# EAGLE library part CDTV_DIAG (library Amiga)
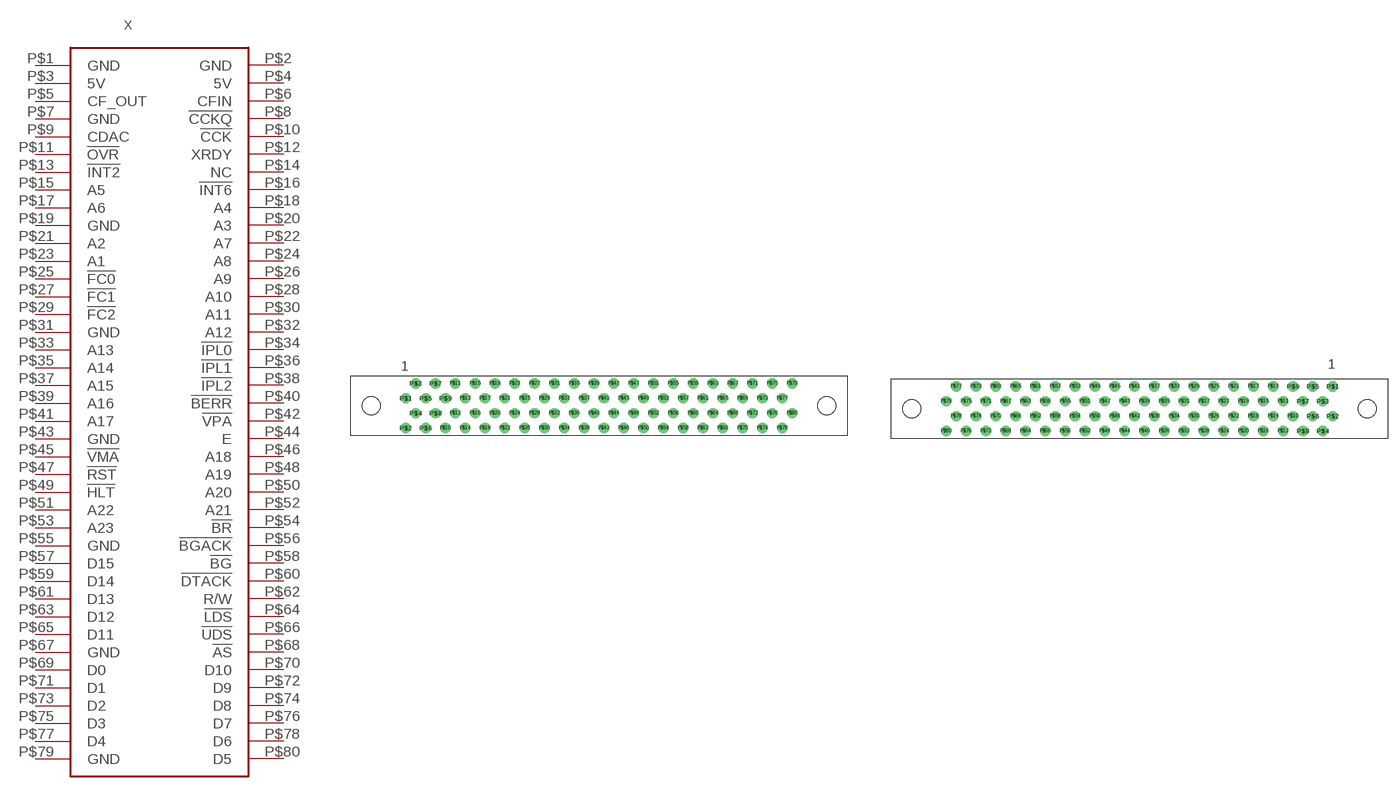
[diagram p46: symbol with the pads of KEL80-F; footprints KEL80-F, KEL80-M]

Designator prefix X

## CDTV_DIAGF  [KEL80-F]
P$1  GND  pwr
P$2  GND  pwr
P$3  5V  pwr
P$4  5V  pwr
P$5  CF_OUT  out
P$6  CFIN  in
P$7  GND  pwr
P$8  !CCKQ  in
P$9  CDAC  in
P$10  !CCK  in
P$11  !OVR  out
P$12  XRDY  out
P$13  !INT2  out
P$14  NC  nc
P$15  A5
P$16  !INT6  out
P$17  A6
P$18  A4
P$19  GND  pwr
P$20  A3
P$21  A2
P$22  A7
P$23  A1
P$24  A8
P$25  !FC0
P$26  A9
P$27  !FC1
P$28  A10
P$29  !FC2
P$30  A11
P$31  GND  pwr
P$32  A12
P$33  A13
P$34  !IPL0
P$35  A14
P$36  !IPL1
P$37  A15
P$38  !IPL2
P$39  A16
P$40  !BERR
P$41  A17
P$42  !VPA  in
P$43  GND  pwr
P$44  E  in
P$45  !VMA
P$46  A18
P$47  !RST
P$48  A19
P$49  !HLT
P$50  A20
P$51  A22
P$52  A21
P$53  A23
P$54  !BR  in
P$55  GND  pwr
P$56  !BGACK  in
P$57  D15
P$58  !BG  out
P$59  D14
P$60  !DTACK
P$61  D13
P$62  R/W
P$63  D12
P$64  !LDS
P$65  D11
P$66  !UDS
P$67  GND  pwr
P$68  !AS
P$69  D0
P$70  D10
P$71  D1
P$72  D9
P$73  D2
P$74  D8
P$75  D3
P$76  D7
P$77  D4
P$78  D6
P$79  GND  pwr
P$80  D5

## CDTV_DIAGM  [KEL80-M]
Pads as for KEL80-F

## Footprint KEL80-F (pad centres in mm)
drill 0.8 octagon: P$1 -24.765,0.953
drill 0.8: P$2 -24.765,-2.857; P$3 -23.495,2.857; P$4 -23.495,-0.953; P$5 -22.225,0.953; P$6 -22.225,-2.857; P$7 -20.955,2.857; P$8 -20.955,-0.953; P$9 -19.685,0.953; P$10 -19.685,-2.857; P$11 -18.415,2.857; P$12 -18.415,-0.953; P$13 -17.145,0.953; P$14 -17.145,-2.857; P$15 -15.875,2.857; P$16 -15.875,-0.953; P$17 -14.605,0.953; P$18 -14.605,-2.857; P$19 -13.335,2.857; P$20 -13.335,-0.953; P$21 -12.065,0.953; P$22 -12.065,-2.857; P$23 -10.795,2.857; P$24 -10.795,-0.953; P$25 -9.525,0.953; P$26 -9.525,-2.857; P$27 -8.255,2.857; P$28 -8.255,-0.953; P$29 -6.985,0.953; P$30 -6.985,-2.857; P$31 -5.715,2.857; P$32 -5.715,-0.953; P$33 -4.445,0.953; P$34 -4.445,-2.857; P$35 -3.175,2.857; P$36 -3.175,-0.953; P$37 -1.905,0.953; P$38 -1.905,-2.857; P$39 -0.635,2.857; P$40 -0.635,-0.953; P$41 0.635,0.953; P$42 0.635,-2.857; P$43 1.905,2.857; P$44 1.905,-0.953; P$45 3.175,0.953; P$46 3.175,-2.857; P$47 4.445,2.857; P$48 4.445,-0.953; P$49 5.715,0.953; P$50 5.715,-2.857; P$51 6.985,2.857; P$52 6.985,-0.953; P$53 8.255,0.953; P$54 8.255,-2.857; P$55 9.525,2.857; P$56 9.525,-0.953; P$57 10.795,0.953; P$58 10.795,-2.857; P$59 12.065,2.857; P$60 12.065,-0.953; P$61 13.335,0.953; P$62 13.335,-2.857; P$63 14.605,2.857; P$64 14.605,-0.953; P$65 15.875,0.953; P$66 15.875,-2.857; P$67 17.145,2.857; P$68 17.145,-0.953; P$69 18.415,0.953; P$70 18.415,-2.857; P$71 19.685,2.857; P$72 19.685,-0.953; P$73 20.955,0.953; P$74 20.955,-2.857; P$75 22.225,2.857; P$76 22.225,-0.953; P$77 23.495,0.953; P$78 23.495,-2.857; P$79 24.765,2.857; P$80 24.765,-0.953
hole 2.3 at -29.21,0
hole 2.3 at 29.21,0

## Footprint KEL80-M (pad centres in mm)
drill 0.8 octagon: P$1 24.765,2.857
drill 0.8: P$2 24.765,-0.953; P$3 23.495,0.953; P$4 23.495,-2.857; P$5 22.225,2.857; P$6 22.225,-0.953; P$7 20.955,0.953; P$8 20.955,-2.857; P$9 19.685,2.857; P$10 19.685,-0.953; P$11 18.415,0.953; P$12 18.415,-2.857; P$13 17.145,2.857; P$14 17.145,-0.953; P$15 15.875,0.953; P$16 15.875,-2.857; P$17 14.605,2.857; P$18 14.605,-0.953; P$19 13.335,0.953; P$20 13.335,-2.857; P$21 12.065,2.857; P$22 12.065,-0.953; P$23 10.795,0.953; P$24 10.795,-2.857; P$25 9.525,2.857; P$26 9.525,-0.953; P$27 8.255,0.953; P$28 8.255,-2.857; P$29 6.985,2.857; P$30 6.985,-0.953; P$31 5.715,0.953; P$32 5.715,-2.857; P$33 4.445,2.857; P$34 4.445,-0.953; P$35 3.175,0.953; P$36 3.175,-2.857; P$37 1.905,2.857; P$38 1.905,-0.953; P$39 0.635,0.953; P$40 0.635,-2.857; P$41 -0.635,2.857; P$42 -0.635,-0.953; P$43 -1.905,0.953; P$44 -1.905,-2.857; P$45 -3.175,2.857; P$46 -3.175,-0.953; P$47 -4.445,0.953; P$48 -4.445,-2.857; P$49 -5.715,2.857; P$50 -5.715,-0.953; P$51 -6.985,0.953; P$52 -6.985,-2.857; P$53 -8.255,2.857; P$54 -8.255,-0.953; P$55 -9.525,0.953; P$56 -9.525,-2.857; P$57 -10.795,2.857; P$58 -10.795,-0.953; P$59 -12.065,0.953; P$60 -12.065,-2.857; P$61 -13.335,2.857; P$62 -13.335,-0.953; P$63 -14.605,0.953; P$64 -14.605,-2.857; P$65 -15.875,2.857; P$66 -15.875,-0.953; P$67 -17.145,0.953; P$68 -17.145,-2.857; P$69 -18.415,2.857; P$70 -18.415,-0.953; P$71 -19.685,0.953; P$72 -19.685,-2.857; P$73 -20.955,2.857; P$74 -20.955,-0.953; P$75 -22.225,0.953; P$76 -22.225,-2.857; P$77 -23.495,2.857; P$78 -23.495,-0.953; P$79 -24.765,0.953; P$80 -24.765,-2.857
hole 2.3 at 29.21,0
hole 2.3 at -29.21,0